# Altium footprint library B82804A.PcbLib: 1 footprints
Each footprint in its own frame and in the unit in brackets; x right, y up, seen from the top. Pads: shape width x height; smd on the part's side, far side on the other; paste and mask are expansions set on the pad; w line width, h text height; cw(c..) or ccw(c..) is an arc to the next point about the centre after c.
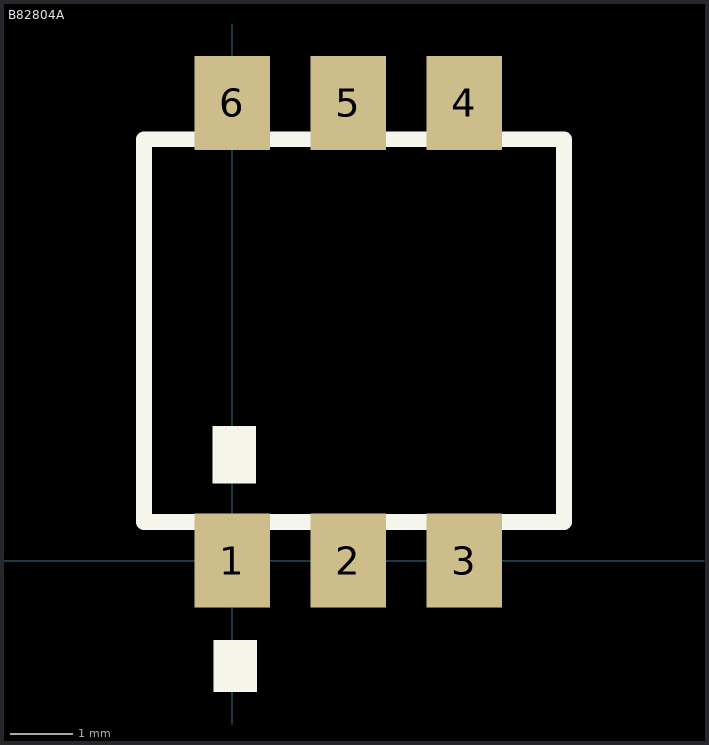
[diagram p0: the footprint, top view; thin cyan lines are the x and y axes]

## B82804A [mm]
pads (6):
  rect 1.2x1.5 smd: 1(0,0) 2(1.85,0) 3(3.7,0) 4(3.7,7.295) 5(1.85,7.295) 6(0,7.295)
Top Overlay:
  rectangle: -0.297,-2.098 0.399,-1.265
  rectangle: -0.312,1.232 0.384,2.141
  lines w0.254: -1.407,0.615 5.293,0.615 5.293,6.715 -1.407,6.715 -1.407,0.615